# Altium footprint library Custom_UAM_Parts.PcbLib: 11 footprints
Each footprint in its own frame and in the unit in brackets; x right, y up, seen from the top. Pads: shape width x height; smd on the part's side, far side on the other; paste and mask are expansions set on the pad; w line width, h text height; cw(c..) or ccw(c..) is an arc to the next point about the centre after c.
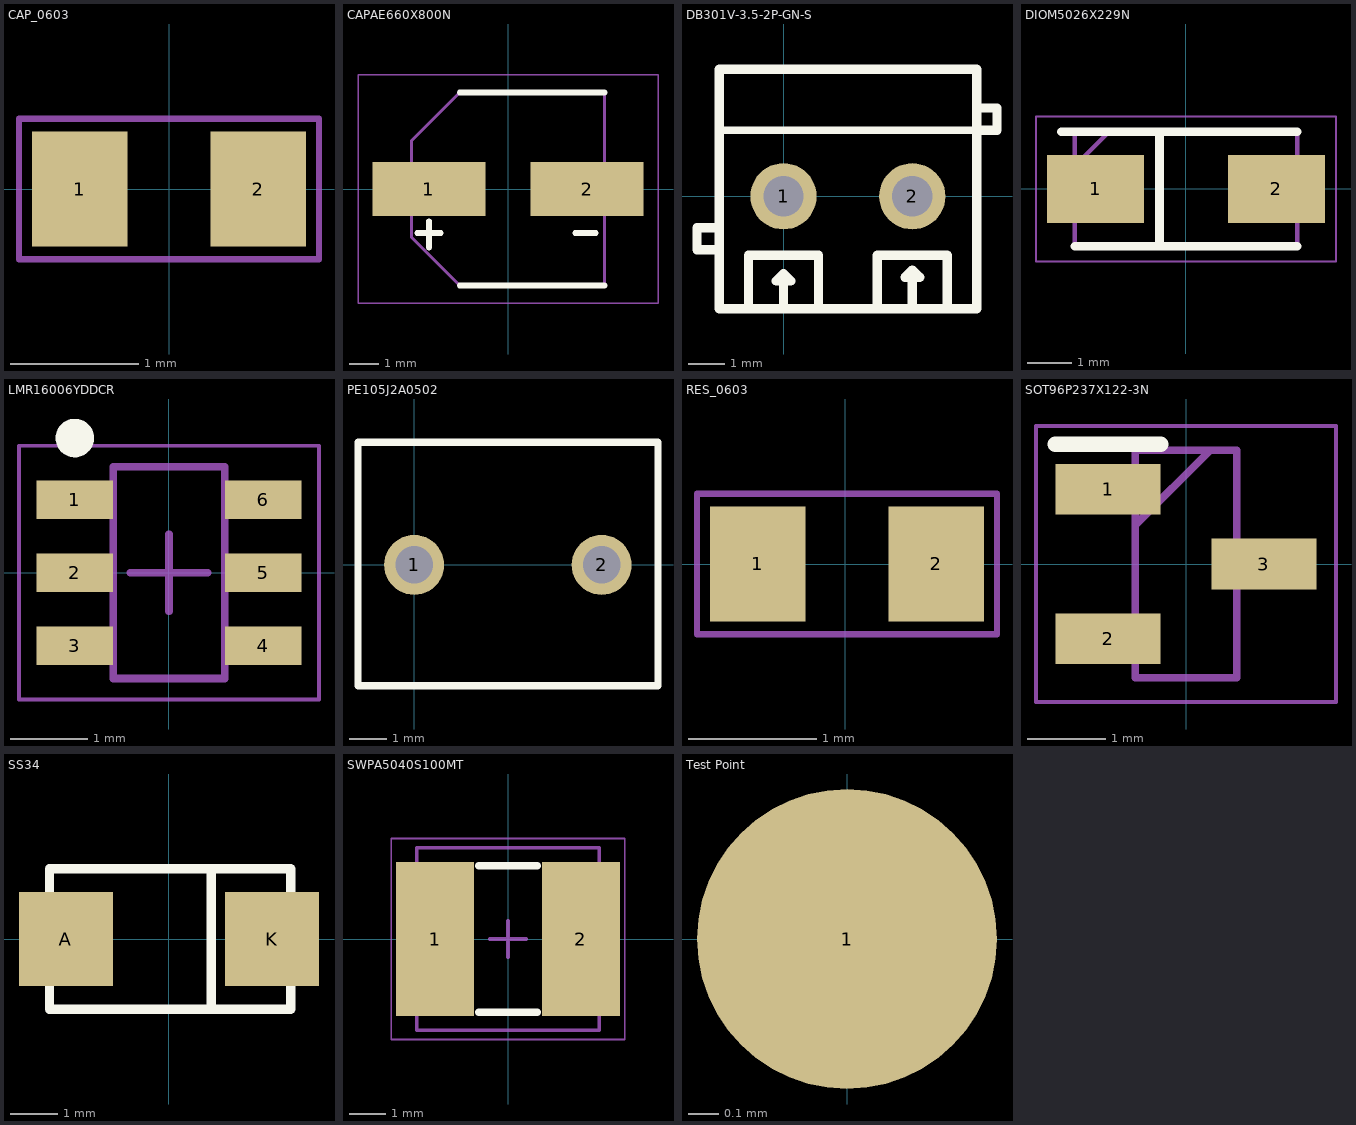
[diagram p0: the footprints below, top view; thin cyan lines are the x and y axes]

## CAP_0603 [mm]
pads (2):
  rect 0.75x0.9 smd: 1(-0.7,0) 2(0.7,0)
Top Courtyard:
  lines w0.05: -1.175,-0.55 -1.175,0.55 1.175,0.55 1.175,-0.55 -1.175,-0.55
3D body "CAP_CL10_SAM.step": height 0.9, standoff 0, extent -0.8,-0.4 0.8,0.4

## CAPAE660X800N [mm]
pads (2):
  rect 3.85x1.85 smd: 1(-2.7,0) 2(2.7,0)
Top Overlay:
  lines w0.2: -3.1,-1.5 -2.3,-1.5 ; -2.7,-2 -2.7,-1.1 ; -1.65,-3.3 3.3,-3.3 ; -1.65,3.3 3.3,3.3 ; 2.3,-1.5 3,-1.5
Mechanical 13:
  lines w0.1: -3.3,-1.65 -3.3,1.65 -1.65,3.3 3.3,3.3 3.3,-3.3 -1.65,-3.3 -3.3,-1.65
Mechanical 15:
  lines w0.05: -5.125,-3.9 5.125,-3.9 5.125,3.9 -5.125,3.9 -5.125,-3.9
3D body "RVT1E101M0607.stp": height 8, standoff 0, extent -3.9,-3.4 3.9,3.4

## DB301V-3.5-2P-GN-S [mm]
pads (2):
  round 1.8 hole 1.1: 1(0,0) 2(3.5,0)
Top Overlay:
  lines w0.2: -1.7,1.8 5.2,1.8
  lines w0.254: -1.85,-0.85 -2.35,-0.85 -2.35,-1.45 -1.75,-1.45 ; -0.95,-3 -0.95,-1.6 0.95,-1.6 0.95,-3 ; 0,-3 0,-2.1 ; 2.55,-3 2.55,-1.6 4.45,-1.6 4.45,-3 ; 3.5,-2.9 3.5,-2 ; 5.2,1.8 5.8,1.8 5.8,2.4 5.3,2.4 ; 0,-2.1 -0.2,-2.3 0.2,-2.3 0,-2.1 ; 3.5,-2 3.3,-2.2 3.7,-2.2 3.5,-2 ; -1.75,-3.05 5.25,-3.05 5.25,3.45 -1.75,3.45 -1.75,-3.05
3D body "DB301V-3.5-2P-GN-S.step": height 8.5, standoff -3.4, extent -2.25,-3.125 5.75,3.375

## DIOM5026X229N [mm]
pads (2):
  rect 2.2x1.55 smd: 1(-2.05,0) 2(2.05,0)
Top Overlay:
  lines w0.2: -2.825,1.298 2.52,1.298 ; -2.52,-1.298 2.52,-1.298 ; -0.6,-1.2 -0.6,1.2
Mechanical 13:
  lines w0.1: -2.52,0.522 -1.745,1.298 ; -2.52,-1.298 -2.52,1.298 2.52,1.298 2.52,-1.298 -2.52,-1.298
Mechanical 15:
  lines w0.05: -3.4,-1.645 -3.4,1.645 3.4,1.645 3.4,-1.645 -3.4,-1.645
3D body "SMAJ15A-HR.stp": height 2.29, standoff 0, extent -2.52,-1.298 2.52,1.298

## LMR16006YDDCR [mm] "SOT23, 6-Leads, Body 2.75x2.55mm, Pitch 0.95mm, IPC Medium Density"
height 0.7
pads (6):
  rect 1x0.5 smd: 1(-1.225,0.95) 2(-1.225,0) 3(-1.225,-0.95) 4(1.225,-0.95) 5(1.225,0) 6(1.225,0.95)
Top Overlay:
  circle w0.25: c-1.225,1.75 r0.125
Top Assembly:
  lines w0.1: -0.725,-1.375 0.725,-1.375 0.725,1.375 -0.725,1.375 -0.725,-1.375
Top Courtyard:
  lines w0.05: -1.95,-1.65 1.95,-1.65 1.95,1.65 -1.95,1.65 -1.95,-1.65
  lines w0.1: -0.5,0 0.5,0 ; 0,-0.5 0,0.5
3D body "U1~SOT-23-6_L2.9-W1.6-P0.95-LS2.8-BL~SOT-23-6_L2.9-W1.6-H1.5-LS2.8-P0.95~BsxP.step": height 1.64, standoff 0, extent -1.396,-1.44 1.396,1.44

## PE105J2A0502 [mm]
pads (2):
  round 1.6 hole 1: 1(0,0) 2(5,0)
Top Overlay:
  lines w0.2: 6.501,-3.226 -1.499,-3.226 -1.499,3.274 6.501,3.274 ; 6.502,-3.226 6.502,3.274
3D body "PE105J2A0502.step": height 11, standoff -3, extent -1.235,-3 6.265,3.001

## RES_0603 [mm]
pads (2):
  rect 0.75x0.9 smd: 1(-0.686,0.002) 2(0.714,0.002)
Top Courtyard:
  lines w0.05: -1.161,-0.548 -1.161,0.552 1.189,0.552 1.189,-0.548 -1.161,-0.548
3D body "RES0603.step": height 0.45, standoff 0, extent -0.8,-0.4 0.8,0.4

## SOT96P237X122-3N [mm]
pads (3):
  rect 1.35x0.65 smd: 1(-1,0.96) 2(-1,-0.96) 3(1,0)
Top Overlay:
  lines w0.2: -1.675,1.535 -0.325,1.535
Mechanical 13:
  lines w0.1: -0.65,0.5 0.31,1.46 ; -0.65,-1.46 -0.65,1.46 0.65,1.46 0.65,-1.46 -0.65,-1.46
Mechanical 15:
  lines w0.05: -1.925,-1.77 -1.925,1.77 1.925,1.77 1.925,-1.77 -1.925,-1.77
3D body "SOT23-3.stp": height 1.2, standoff 0.02, extent -1.418,-1.5 1.418,1.5

## SS34 [mm]
pads (2):
  rect 2x2 smd: A(-2.2,0) K(2.2,0)
Top Overlay:
  lines w0.2: 0.9,-1.5 0.9,1.5 ; -2.55,-1.5 -2.55,0 -2.55,1.5 2.6,1.5 2.6,-1.5 -2.55,-1.5
3D body "SS34.step": height 2, standoff -0.1, extent -2.338,-1.301 2.362,1.299

## SWPA5040S100MT [mm] "Chip Inductor, 2-Leads, Body 5.00x5.00mm, IPC Medium Density"
height 4
pads (2):
  rect 2.124x4.22 smd: 1(-2,0) 2(2,0)
Top Overlay:
  lines w0.2: -0.8,-2.01 0.8,-2.01 ; -0.8,2.01 0.8,2.01
Top Assembly:
  lines w0.1: -2.5,-2.5 2.5,-2.5 2.5,2.5 -2.5,2.5 -2.5,-2.5
Top Courtyard:
  lines w0.05: -3.2,-2.75 3.2,-2.75 3.2,2.75 -3.2,2.75 -3.2,-2.75
  lines w0.1: -0.5,0 0.5,0 ; 0,-0.5 0,0.5
3D body "SWPA5040S100MT.step": height 2.13, standoff 0.01, extent -2.51,-2.5 2.51,2.5

## Test Point [mm]
pads (1):
  round 1 smd paste-2539.97: 1(0,0)